# EAGLE library part ZED-F9P (library ZED-F9P)
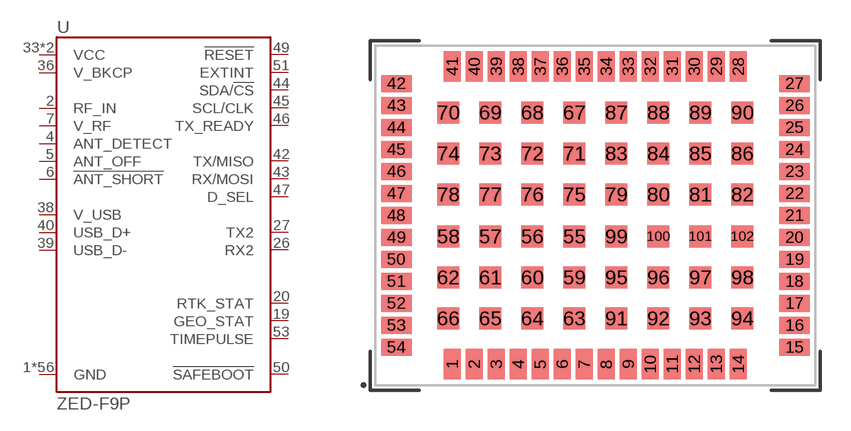
[diagram p0: symbol with the pads of ZED-F9P; footprint ZED-F9P]

Designator prefix U

## ZED-F9P  [ZED-F9P]
1  GND
2  RF_IN
3  GND
4  ANT_DETECT
5  ANT_OFF
6  !ANT_SHORT!
7  V_RF
12  GND
14  GND
19  GEO_STAT
20  RTK_STAT
26  RX2
27  TX2
32  GND
33  VCC
34  VCC
36  V_BKCP
37  GND
38  V_USB
39  USB_D-
40  USB_D+
41  GND
42  TX/MISO
43  RX/MOSI
44  SDA/!CS!
45  SCL/CLK
46  TX_READY
47  D_SEL
48  GND
49  !RESET!
50  !SAFEBOOT!
51  EXTINT
53  TIMEPULSE
55  GND
56  GND
57  GND
58  GND
59  GND
60  GND
61  GND
62  GND
63  GND
64  GND
65  GND
66  GND
67  GND
68  GND
69  GND
70  GND
71  GND
72  GND
73  GND
74  GND
75  GND
76  GND
77  GND
78  GND
79  GND
80  GND
81  GND
82  GND
83  GND
84  GND
85  GND
86  GND
87  GND
88  GND
89  GND
90  GND
91  GND
92  GND
93  GND
94  GND
95  GND
96  GND
97  GND
98  GND
99  GND
100  GND
101  GND
102  GND

## Footprint ZED-F9P (pad centres in mm)
smd 0.85 x 1.52: 1 -7.15,-7.45; 2 -6.05,-7.45; 3 -4.95,-7.45; 4 -3.85,-7.45; 5 -2.75,-7.45; 6 -1.65,-7.45; 7 -0.55,-7.45; 8 0.55,-7.45; 9 1.65,-7.45; 10 2.75,-7.45; 11 3.85,-7.45; 12 4.95,-7.45; 13 6.05,-7.45; 14 7.15,-7.45; 28 7.15,7.45; 29 6.05,7.45; 30 4.95,7.45; 31 3.85,7.45; 32 2.75,7.45; 33 1.65,7.45; 34 0.55,7.45; 35 -0.55,7.45; 36 -1.65,7.45; 37 -2.75,7.45; 38 -3.85,7.45; 39 -4.95,7.45; 40 -6.05,7.45; 41 -7.15,7.45
smd 1.52 x 0.85: 15 9.95,-6.6; 16 9.95,-5.5; 17 9.95,-4.4; 18 9.95,-3.3; 19 9.95,-2.2; 20 9.95,-1.1; 21 9.95,0; 22 9.95,1.1; 23 9.95,2.2; 24 9.95,3.3; 25 9.95,4.4; 26 9.95,5.5; 27 9.95,6.6; 42 -9.95,6.6; 43 -9.95,5.5; 44 -9.95,4.4; 45 -9.95,3.3; 46 -9.95,2.2; 47 -9.95,1.1; 48 -9.95,0; 49 -9.95,-1.1; 50 -9.95,-2.2; 51 -9.95,-3.3; 52 -9.95,-4.4; 53 -9.95,-5.5; 54 -9.95,-6.6
smd 1.1 x 1.1: 55 -1.05,-1.05; 56 -3.15,-1.05; 57 -5.25,-1.05; 58 -7.35,-1.05; 59 -1.05,-3.1; 60 -3.15,-3.1; 61 -5.25,-3.1; 62 -7.35,-3.1; 63 -1.05,-5.15; 64 -3.15,-5.15; 65 -5.25,-5.15; 66 -7.35,-5.15; 67 -1.05,5.15; 68 -3.15,5.15; 69 -5.25,5.15; 70 -7.35,5.15; 71 -1.05,3.1; 72 -3.15,3.1; 73 -5.25,3.1; 74 -7.35,3.1; 75 -1.05,1.05; 76 -3.15,1.05; 77 -5.25,1.05; 78 -7.35,1.05; 79 1.05,1.05; 80 3.15,1.05; 81 5.25,1.05; 82 7.35,1.05; 83 1.05,3.1; 84 3.15,3.1; 85 5.25,3.1; 86 7.35,3.1; 87 1.05,5.15; 88 3.15,5.15; 89 5.25,5.15; 90 7.35,5.15; 91 1.05,-5.15; 92 3.15,-5.15; 93 5.25,-5.15; 94 7.35,-5.15; 95 1.05,-3.1; 96 3.15,-3.1; 97 5.25,-3.1; 98 7.35,-3.1; 99 1.05,-1.05; 100 3.15,-1.05; 101 5.25,-1.05; 102 7.35,-1.05